# EAGLE library part 665108131822 (library Wurth_Connectors_WR-WTB)
WR-WTB 1.00 mm SMT Male Horizontal Shrouded KIND PROPERTIES: Pitch:1 mm Gender:Male MATERIAL PROPERTIES: Insulator Material :PA46 Insulator Flammability Rating:UL94 V-0 Color:Beige Contact Material:Phosphor Bronze Contact Plating:Tin Contact Type:Stamped GENERAL INFORMATION Operating Temperature:-25 up to +85 °C Compliance: RoHS Working Voltage:50 V (AC) Withstanding Voltage:500 V (AC) Contact Resistance:20 mΩ RISO:100MΩ CERTIFICATION UL Approval:E323964 PACKAGING PROPERTIES Packaging:Tape and Reel with Cap <https://katalog.we-online.com/media/images/v2/o58871v209%20Fam_WR-WTB_SMT_Male_Horizontal_Shrouded_Header_6651xx131822.jpg> Details see: https://katalog.we-online.com/en/em/WTB_1_00_SMT_MALE_HORIZONTAL_SHROUDED_HEADER_6651XX131822 Updated by Yingchun,Shan 2019-11-11 2019 (C) Würth Elektronik
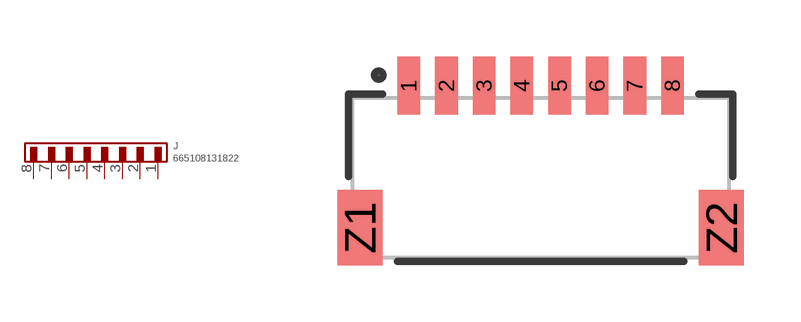
[diagram p120: symbol with the pads of 665108131822; footprint 665108131822]

Designator prefix J

## 665108131822 (CONTACT-RESISTANCE: 20mOhm; DATASHEET-URL: https://www.we-online.com/redexpert/spec/665108131822?ae; GENDER: Male; IR: 1A; L: 10mm; MOUNT: SMT; PACKAGING: Tape and Reel; PART-NUMBER: 665108131822; PCB-CABLE-PANEL: PCB; PINS: 8; PITCH: 1mm; TYPE: Horizontal; VALUE: 665108131822; WORKING-VOLTAGE: 50V(AC))  [665108131822]
1  1  pas
2  2  pas
3  3  pas
4  4  pas
5  5  pas
6  6  pas
7  7  pas
8  8  pas

## Footprint 665108131822 (pad centres in mm)
WR-WTB 1.00 mm SMT Male Horizontal Shrouded, 8 pins
smd 0.6 x 1.55: 1 -3.5,1.92; 2 -2.5,1.92; 3 -1.5,1.92; 4 -0.5,1.92; 5 0.5,1.92; 6 1.5,1.92; 7 2.5,1.92; 8 3.5,1.92
smd 1.2 x 2: Z1 -4.8,-1.855; Z2 4.8,-1.855